# EAGLE library part REG711-5_DGK_8 (library pavlo)
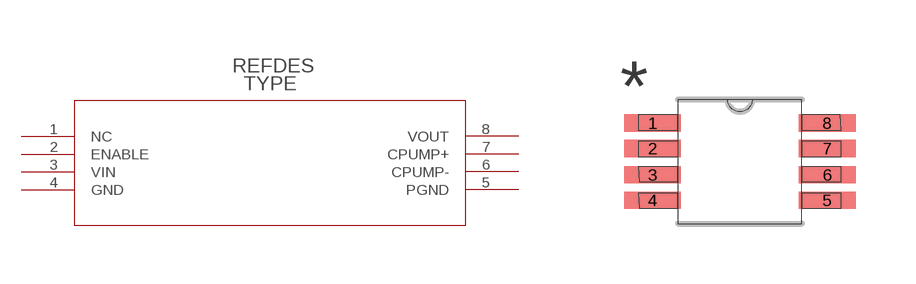
[diagram p9: symbol with the pads of DGK8; footprint DGK8]

Designator prefix U

## REG711-5_DGK_8  [DGK8]
1  NC  pas
2  ENABLE  pas
3  VIN  pas
4  GND  pas
5  PGND  pas
6  CPUMP-  pas
7  CPUMP+  pas
8  VOUT  pas

## Footprint DGK8 (pad centres in mm)
smd 1.422 x 0.432: 1 -2.184,0.965; 2 -2.184,0.33; 3 -2.184,-0.33; 4 -2.184,-0.965; 5 2.184,-0.965; 6 2.184,-0.33; 7 2.184,0.33; 8 2.184,0.965